# Altium schematic symbol library TRANS-NPN-ECB.SCHLIB: 1 symbol
Pins are listed as number, name and electrical type; pins without a type are passive.

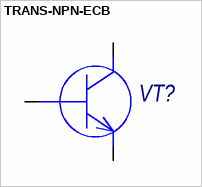
[diagram p0: symbol TRANS-NPN-ECB]

## TRANS-NPN-ECB
designator VT?
pins: 1 E, 2 C, 3 B